# Altium footprint library FP-S9B-PH-K-S_LF_SN-MFG.PcbLib: 1 footprints
Each footprint in its own frame and in the unit in brackets; x right, y up, seen from the top. Pads: shape width x height; smd on the part's side, far side on the other; paste and mask are expansions set on the pad; w line width, h text height; cw(c..) or ccw(c..) is an arc to the next point about the centre after c.
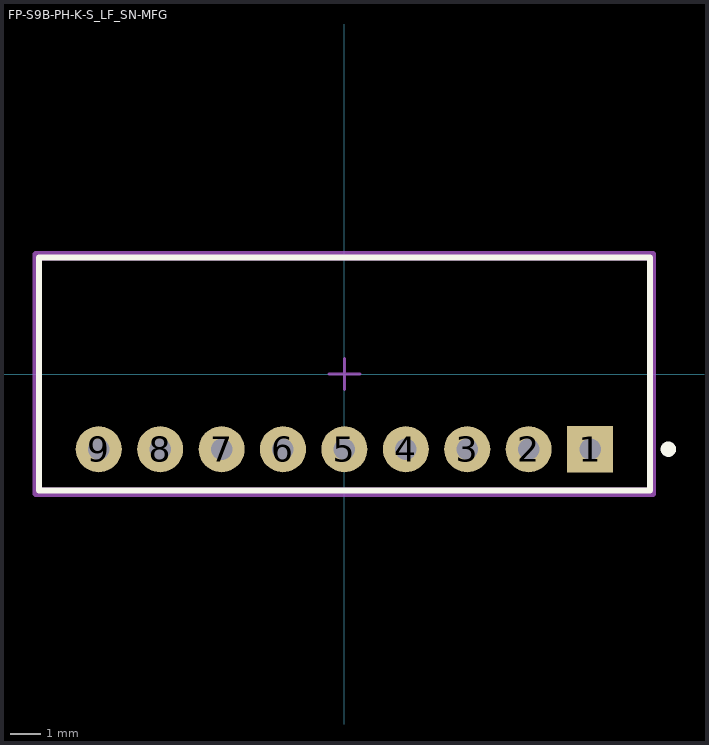
[diagram p0: the footprint, top view; thin cyan lines are the x and y axes]

## FP-S9B-PH-K-S_LF_SN-MFG [mm]
pads (9):
  rect 1.5x1.5 hole 0.7 paste-1000 mask+0: 1(8,-2.45)
  round 1.5 hole 0.7 paste-1000 mask+0: 2(6,-2.45) 3(4,-2.45) 4(2,-2.45) 5(0,-2.45) 6(-2,-2.45) 7(-4,-2.45) 8(-6,-2.45) 9(-8,-2.45)
Top Overlay:
  circle w0.25: c10.55,-2.45 r0.125
  lines w0.2: -9.95,-3.8 9.95,-3.8 9.95,3.8 -9.95,3.8 -9.95,-3.8
Top Assembly:
  lines w0.2: -10.05,-3.9 10.05,-3.9 10.05,3.9 -10.05,3.9 -10.05,-3.9
  text ".Designator" at 0,0.187 h1
Top 3D Body:
  lines w0.2: -9.95,-3.8 9.95,-3.8 9.95,3.8 -9.95,3.8 -9.95,-3.8
Top Courtyard:
  lines w0.2: -10.05,-3.9 10.05,-3.9 10.05,3.9 -10.05,3.9 -10.05,-3.9
Top Component Center:
  lines w0.1: -0.5,0 0.5,0 ; 0,-0.5 0,0.5
3D body "Conn_JST_S9B-PH-K-S_LF_SN_eec.STEP": height 0.25, standoff 0, extent -10.05,-3.9 10.05,3.9